# EAGLE library part 418127270904 (library Wurth_Elektronik_Electromechanic_Switchs_rev15b)
WS-IC 2.54 mm small compact THT Dip Switch with raised actuator, 4 Pole
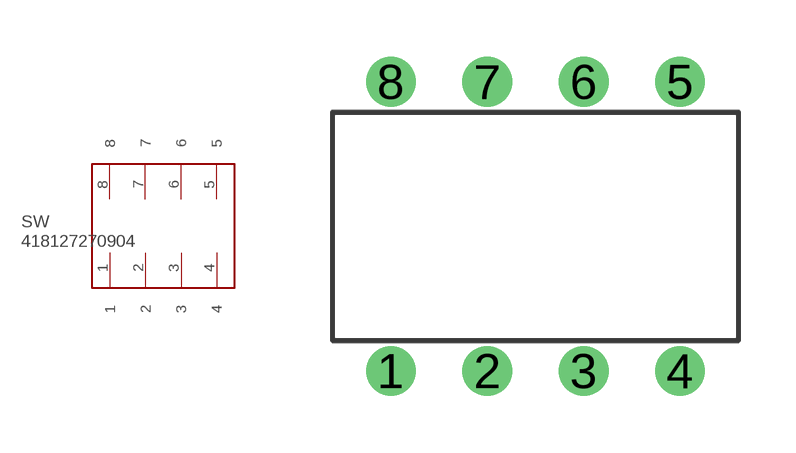
[diagram p109: symbol with the pads of 418127270904; footprint 418127270904]

Designator prefix SW

## 418127270904  [418127270904]
1  1
2  2
3  3
4  4
5  5
6  6
7  7
8  8

## Footprint 418127270904 (pad centres in mm)
WS-IC 2.54 mm small compact THT Dip Switch with raised actuator, 4 Pole
drill 0.8: 1 0,-3.81; 2 2.54,-3.81; 3 5.08,-3.81; 4 7.62,-3.81; 5 7.62,3.81; 6 5.08,3.81; 7 2.54,3.81; 8 0,3.81